# Altium footprint library LED_THT.PcbLib: 81 footprints (part 4 of 6)
Each footprint in its own frame and in the unit in brackets; x right, y up, seen from the top. Pads: shape width x height; smd on the part's side, far side on the other; paste and mask are expansions set on the pad; w line width, h text height; cw(c..) or ccw(c..) is an arc to the next point about the centre after c.
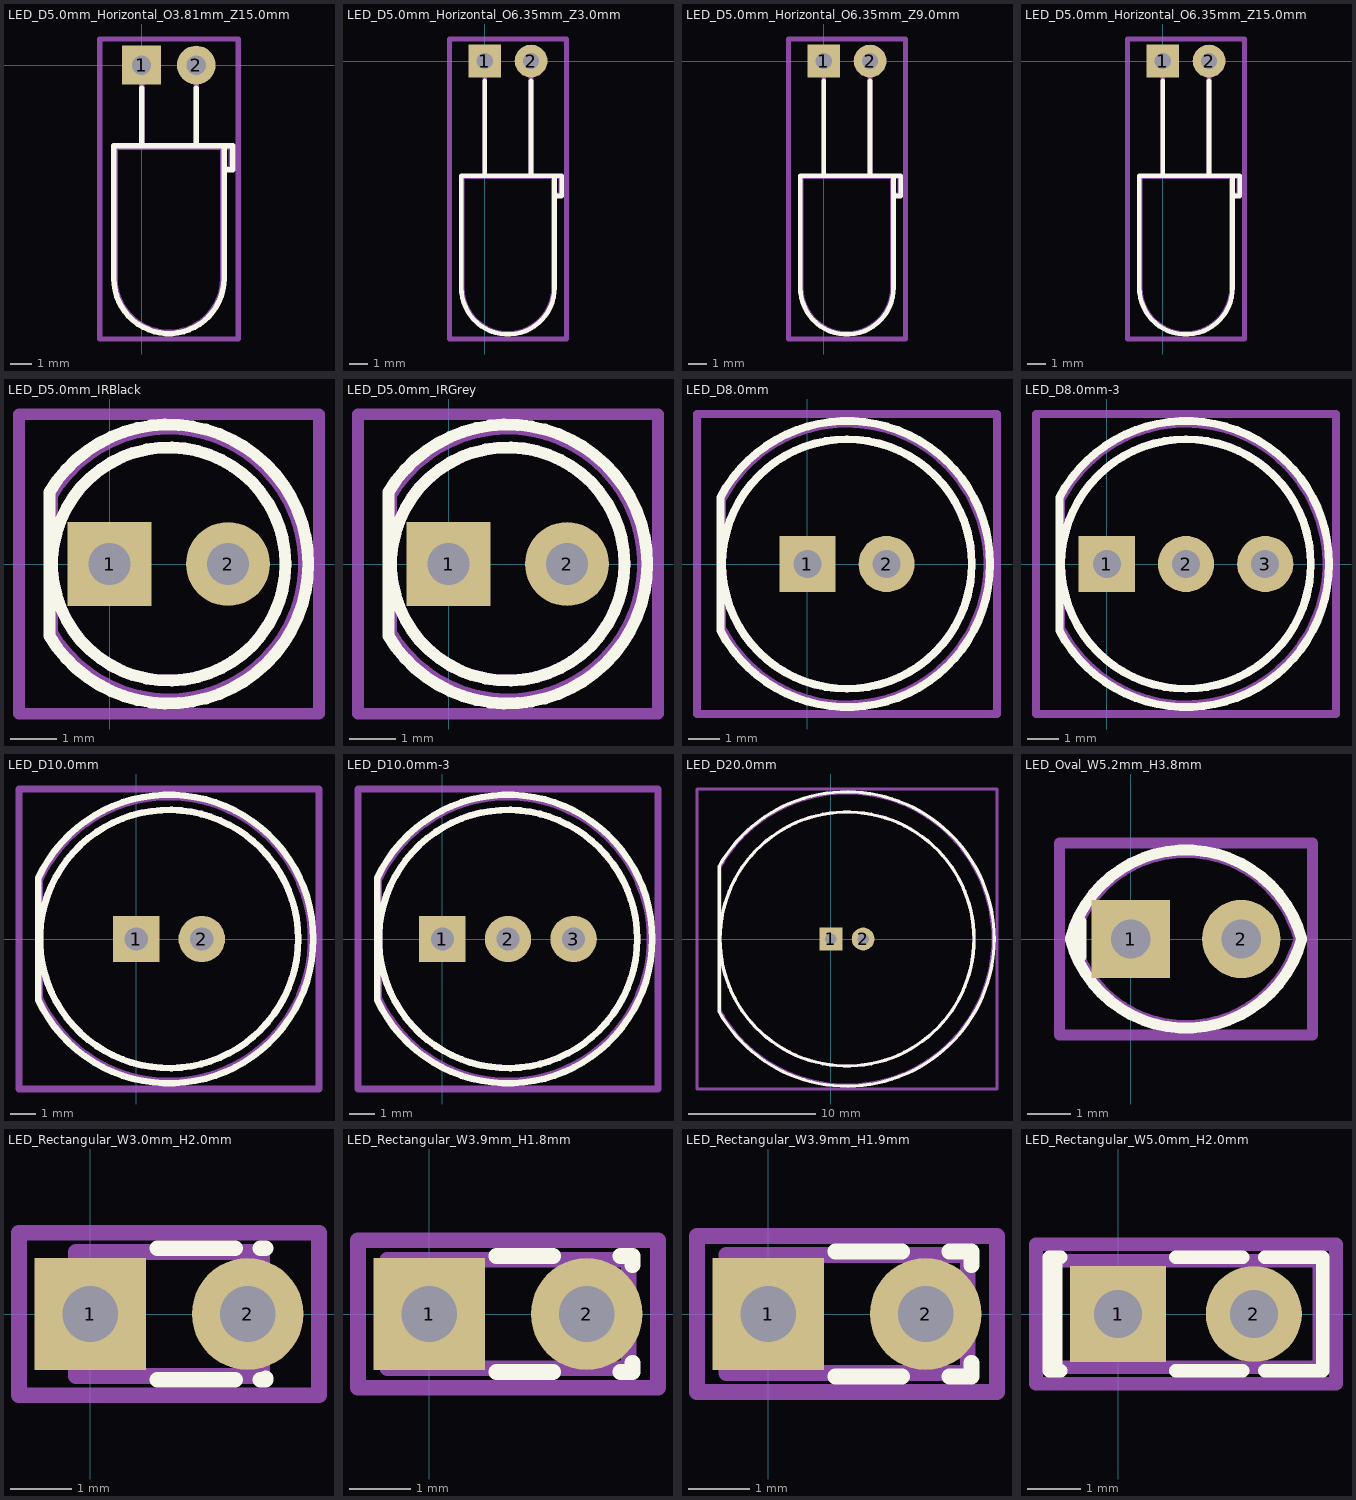
[diagram p3: the footprints below, top view; thin cyan lines are the x and y axes]

## LED_D5.0mm_Horizontal_O3.81mm_Z15.0mm [mm]
pads (2):
  rect 1.8x1.8 hole 0.9: 1(0,0)
  round 1.8 hole 0.9: 2(2.54,0)
F.SilkS:
  lines w0.254: 3.83,-3.75 3.83,-4.87 4.23,-4.87 4.23,-3.75 3.83,-3.75 ; 3.83,-3.75 3.83,-9.91 cw(c1.27,-9.91) -1.29,-9.91 -1.29,-3.75 3.83,-3.75 ; 0,-3.75 0,-1.08 0,-3.75 ; 2.54,-3.75 2.54,-1.08 2.54,-3.75
Top Assembly:
  lines w0.254: 3.77,-3.81 3.77,-4.81 4.17,-4.81 4.17,-3.81 3.77,-3.81 ; 3.77,-3.81 3.77,-9.91 cw(c1.27,-9.91) -1.23,-9.91 -1.23,-3.81 3.77,-3.81 ; 0,-3.81 0,0 0,-3.81 ; 2.54,-3.81 2.54,0 2.54,-3.81
  text "'.Designator'" at -1.967,-7.982 h0.8
Top Courtyard:
  lines w0.254: -1.94,-12.72 4.49,-12.72 4.49,1.21 -1.94,1.21 -1.94,-12.72
Top Designator:
  text ".Designator" at -6.353,-6.263 h1.52

## LED_D5.0mm_Horizontal_O6.35mm_Z3.0mm [mm]
pads (2):
  rect 1.8x1.8 hole 0.9: 1(0,0)
  round 1.8 hole 0.9: 2(2.54,0)
F.SilkS:
  lines w0.254: 3.83,-6.29 3.83,-7.41 4.23,-7.41 4.23,-6.29 3.83,-6.29 ; 3.83,-6.29 3.83,-12.45 cw(c1.27,-12.45) -1.29,-12.45 -1.29,-6.29 3.83,-6.29 ; 0,-6.29 0,-1.08 0,-6.29 ; 2.54,-6.29 2.54,-1.08 2.54,-6.29
Top Assembly:
  lines w0.254: 3.77,-6.35 3.77,-7.35 4.17,-7.35 4.17,-6.35 3.77,-6.35 ; 3.77,-6.35 3.77,-12.45 cw(c1.27,-12.45) -1.23,-12.45 -1.23,-6.35 3.77,-6.35 ; 0,-6.35 0,0 0,-6.35 ; 2.54,-6.35 2.54,0 2.54,-6.35
  text "'.Designator'" at -1.967,-10.522 h0.8
Top Courtyard:
  lines w0.254: -1.94,-15.26 4.49,-15.26 4.49,1.21 -1.94,1.21 -1.94,-15.26
Top Designator:
  text ".Designator" at -6.353,-7.533 h1.52

## LED_D5.0mm_Horizontal_O6.35mm_Z9.0mm [mm]
pads (2):
  rect 1.8x1.8 hole 0.9: 1(0,0)
  round 1.8 hole 0.9: 2(2.54,0)
F.SilkS:
  lines w0.254: 3.83,-6.29 3.83,-7.41 4.23,-7.41 4.23,-6.29 3.83,-6.29 ; 3.83,-6.29 3.83,-12.45 cw(c1.27,-12.45) -1.29,-12.45 -1.29,-6.29 3.83,-6.29 ; 0,-6.29 0,-1.08 0,-6.29 ; 2.54,-6.29 2.54,-1.08 2.54,-6.29
Top Assembly:
  lines w0.254: 3.77,-6.35 3.77,-7.35 4.17,-7.35 4.17,-6.35 3.77,-6.35 ; 3.77,-6.35 3.77,-12.45 cw(c1.27,-12.45) -1.23,-12.45 -1.23,-6.35 3.77,-6.35 ; 0,-6.35 0,0 0,-6.35 ; 2.54,-6.35 2.54,0 2.54,-6.35
  text "'.Designator'" at -1.967,-10.522 h0.8
Top Courtyard:
  lines w0.254: -1.94,-15.26 4.49,-15.26 4.49,1.21 -1.94,1.21 -1.94,-15.26
Top Designator:
  text ".Designator" at -6.353,-7.533 h1.52

## LED_D5.0mm_Horizontal_O6.35mm_Z15.0mm [mm]
pads (2):
  rect 1.8x1.8 hole 0.9: 1(0,0)
  round 1.8 hole 0.9: 2(2.54,0)
F.SilkS:
  lines w0.254: 3.83,-6.29 3.83,-7.41 4.23,-7.41 4.23,-6.29 3.83,-6.29 ; 3.83,-6.29 3.83,-12.45 cw(c1.27,-12.45) -1.29,-12.45 -1.29,-6.29 3.83,-6.29 ; 0,-6.29 0,-1.08 0,-6.29 ; 2.54,-6.29 2.54,-1.08 2.54,-6.29
Top Assembly:
  lines w0.254: 3.77,-6.35 3.77,-7.35 4.17,-7.35 4.17,-6.35 3.77,-6.35 ; 3.77,-6.35 3.77,-12.45 cw(c1.27,-12.45) -1.23,-12.45 -1.23,-6.35 3.77,-6.35 ; 0,-6.35 0,0 0,-6.35 ; 2.54,-6.35 2.54,0 2.54,-6.35
  text "'.Designator'" at -1.967,-10.522 h0.8
Top Courtyard:
  lines w0.254: -1.94,-15.26 4.49,-15.26 4.49,1.21 -1.94,1.21 -1.94,-15.26
Top Designator:
  text ".Designator" at -6.353,-7.533 h1.52

## LED_D5.0mm_IRBlack [mm]
pads (2):
  rect 1.8x1.8 hole 0.9: 1(0,0)
  round 1.8 hole 0.9: 2(2.54,0)
F.SilkS:
  circle w0.254: c1.27,0 r2.5
  lines w0.254: -1.29,-1.545 -1.29,1.545 ; -1.29,-1.545 ccw(c1.27,0) 4.26,0 ccw(c1.27,0) -1.29,1.545
Top Assembly:
  circle w0.254: c1.27,0 r2.5
  lines w0.254: -1.23,-1.47 ccw(c1.27,0) -1.23,1.47 -1.23,-1.47
  text "'.Designator'" at -1.967,-0.672 h0.8
Top Courtyard:
  lines w0.254: -1.94,-3.21 4.49,-3.21 4.49,3.21 -1.94,3.21 -1.94,-3.21
Top Designator:
  text ".Designator" at -6.353,-0.508 h1.52

## LED_D5.0mm_IRGrey [mm]
pads (2):
  rect 1.8x1.8 hole 0.9: 1(0,0)
  round 1.8 hole 0.9: 2(2.54,0)
F.SilkS:
  circle w0.254: c1.27,0 r2.5
  lines w0.254: -1.29,-1.545 -1.29,1.545 ; -1.29,-1.545 ccw(c1.27,0) 4.26,0 ccw(c1.27,0) -1.29,1.545
Top Assembly:
  circle w0.254: c1.27,0 r2.5
  lines w0.254: -1.23,-1.47 ccw(c1.27,0) -1.23,1.47 -1.23,-1.47
  text "'.Designator'" at -1.967,-0.672 h0.8
Top Courtyard:
  lines w0.254: -1.94,-3.21 4.49,-3.21 4.49,3.21 -1.94,3.21 -1.94,-3.21
Top Designator:
  text ".Designator" at -6.353,-0.508 h1.52

## LED_D8.0mm [mm]
pads (2):
  rect 1.8x1.8 hole 0.9: 1(0,0)
  round 1.8 hole 0.9: 2(2.54,0)
F.SilkS:
  circle w0.254: c1.27,0 r4
  lines w0.254: -2.79,-2.141 ccw(c1.27,0) 5.86,0 ccw(c1.27,0) -2.79,2.141 -2.79,-2.141
Top Assembly:
  circle w0.254: c1.27,0 r4
  lines w0.254: -2.73,-2.062 ccw(c1.27,0) -2.73,2.062 -2.73,-2.062
  text "'.Designator'" at -1.967,-0.672 h0.8
Top Courtyard:
  lines w0.254: -3.54,-4.81 6.08,-4.81 6.08,4.81 -3.54,4.81 -3.54,-4.81
Top Designator:
  text ".Designator" at -6.348,-0.508 h1.52

## LED_D8.0mm-3 [mm]
pads (3):
  rect 1.8x1.8 hole 0.9: 1(0,0)
  round 1.8 hole 0.9: 2(2.54,0) 3(5.08,0)
F.SilkS:
  circle w0.254: c2.54,0 r4
  lines w0.254: -1.52,-2.141 ccw(c2.54,0) 7.13,0 ccw(c2.54,0) -1.52,2.141 -1.52,-2.141
Top Assembly:
  circle w0.254: c2.54,0 r4
  lines w0.254: -1.46,-2.062 ccw(c2.54,0) -1.46,2.062 -1.46,-2.062
  text "'.Designator'" at -0.697,-0.672 h0.8
Top Courtyard:
  lines w0.254: -2.27,-4.81 7.35,-4.81 7.35,4.81 -2.27,4.81 -2.27,-4.81
Top Designator:
  text ".Designator" at -5.078,-0.508 h1.52

## LED_D10.0mm [mm]
pads (2):
  rect 1.8x1.8 hole 0.9: 1(0,0)
  round 1.8 hole 0.9: 2(2.54,0)
F.SilkS:
  circle w0.254: c1.27,0 r5
  lines w0.254: -3.79,-2.376 ccw(c1.27,0) 6.86,0 ccw(c1.27,0) -3.79,2.376 -3.79,-2.376
Top Assembly:
  circle w0.254: c1.27,0 r5
  lines w0.254: -3.73,-2.291 ccw(c1.27,0) -3.73,2.291 -3.73,-2.291
  text "'.Designator'" at -1.967,-0.672 h0.8
Top Courtyard:
  lines w0.254: -4.54,-5.81 7.08,-5.81 7.08,5.81 -4.54,5.81 -4.54,-5.81
Top Designator:
  text ".Designator" at -6.348,-0.508 h1.52

## LED_D10.0mm-3 [mm]
pads (3):
  rect 1.8x1.8 hole 0.9: 1(0,0)
  round 1.8 hole 0.9: 2(2.54,0) 3(5.08,0)
F.SilkS:
  circle w0.254: c2.54,0 r5
  lines w0.254: -2.52,-2.376 ccw(c2.54,0) 8.13,0 ccw(c2.54,0) -2.52,2.376 -2.52,-2.376
Top Assembly:
  circle w0.254: c2.54,0 r5
  lines w0.254: -2.46,-2.291 ccw(c2.54,0) -2.46,2.291 -2.46,-2.291
  text "'.Designator'" at -0.697,-0.672 h0.8
Top Courtyard:
  lines w0.254: -3.27,-5.81 8.35,-5.81 8.35,5.81 -3.27,5.81 -3.27,-5.81
Top Designator:
  text ".Designator" at -5.078,-0.508 h1.52

## LED_D20.0mm [mm]
pads (2):
  rect 1.8x1.8 hole 0.9: 1(0,0)
  round 1.8 hole 0.9: 2(2.54,0)
F.SilkS:
  circle w0.254: c1.27,0 r10
  lines w0.254: -8.79,-5.755 ccw(c1.27,0) 12.86,0 ccw(c1.27,0) -8.79,5.755 ; -8.79,-5.755 -8.79,5.755
Top Assembly:
  circle w0.254: c1.27,0 r10
  lines w0.254: -8.73,-5.679 ccw(c1.27,0) -8.73,5.679 -8.73,-5.679
  text "'.Designator'" at -1.967,-0.672 h0.8
Top Courtyard:
  lines w0.254: -10.54,-11.81 13.08,-11.81 13.08,11.81 -10.54,11.81 -10.54,-11.81
Top Designator:
  text ".Designator" at -6.348,-0.508 h1.52

## LED_Oval_W5.2mm_H3.8mm [mm]
pads (2):
  rect 1.8x1.8 hole 0.9: 1(0,0)
  round 1.8 hole 0.9: 2(2.54,0)
F.SilkS:
  lines w0.254: -1.15,-0.404 -1.15,0.404 ; -1.39,0 ccw(c1.27,0.7) 3.93,0 ccw(c1.27,-0.7) -1.39,0
Top Assembly:
  lines w0.254: -1.33,0 ccw(c1.27,0.7) 3.87,0 ccw(c1.27,-0.7) -1.33,0
  text "'.Designator'" at -1.967,-0.672 h0.8
Top Courtyard:
  lines w0.254: -1.64,-2.21 4.18,-2.21 4.18,2.21 -1.64,2.21 -1.64,-2.21
Top Designator:
  text ".Designator" at -6.468,-0.508 h1.52

## LED_Rectangular_W3.0mm_H2.0mm [mm]
pads (2):
  rect 1.8x1.8 hole 0.9: 1(0,0)
  round 1.8 hole 0.9: 2(2.54,0)
F.SilkS:
  lines w0.254: 1.08,-1.06 2.333,-1.06 ; 1.08,1.06 2.333,1.06 ; 2.747,-1.06 2.83,-1.06 2.83,-1.04 ; 2.747,1.06 2.83,1.06
Top Assembly:
  lines w0.254: -0.23,-1 2.77,-1 2.77,1 -0.23,1 -0.23,-1
  text "'.Designator'" at -1.967,-0.672 h0.8
Top Courtyard:
  lines w0.254: -1.15,-1.31 3.69,-1.31 3.69,1.31 -1.15,1.31 -1.15,-1.31
Top Designator:
  text ".Designator" at -6.468,-0.508 h1.52

## LED_Rectangular_W3.9mm_H1.8mm [mm]
pads (2):
  rect 1.8x1.8 hole 0.9: 1(0,0)
  round 1.8 hole 0.9: 2(2.54,0)
F.SilkS:
  lines w0.254: 1.08,-0.935 1.999,-0.935 ; 1.08,0.935 1.999,0.935 ; 3.081,-0.935 3.28,-0.935 3.28,-0.787 ; 3.081,0.935 3.28,0.935 3.28,0.787
Top Assembly:
  lines w0.254: -0.68,-0.875 3.22,-0.875 3.22,0.875 -0.68,0.875 -0.68,-0.875
  text "'.Designator'" at -1.967,-0.672 h0.8
Top Courtyard:
  lines w0.254: -1.15,-1.19 3.69,-1.19 3.69,1.19 -1.15,1.19 -1.15,-1.19
Top Designator:
  text ".Designator" at -6.468,-0.508 h1.52

## LED_Rectangular_W3.9mm_H1.9mm [mm]
pads (2):
  rect 1.8x1.8 hole 0.9: 1(0,0)
  round 1.8 hole 0.9: 2(2.54,0)
F.SilkS:
  lines w0.254: 1.08,-1.01 2.158,-1.01 ; 1.08,1.01 2.158,1.01 ; 2.922,-1.01 3.28,-1.01 3.28,-0.787 ; 2.922,1.01 3.28,1.01 3.28,0.787
Top Assembly:
  lines w0.254: -0.68,-0.95 3.22,-0.95 3.22,0.95 -0.68,0.95 -0.68,-0.95
  text "'.Designator'" at -1.967,-0.672 h0.8
Top Courtyard:
  lines w0.254: -1.15,-1.26 3.69,-1.26 3.69,1.26 -1.15,1.26 -1.15,-1.26
Top Designator:
  text ".Designator" at -6.468,-0.508 h1.52

## LED_Rectangular_W5.0mm_H2.0mm [mm]
pads (2):
  rect 1.8x1.8 hole 0.9: 1(0,0)
  round 1.8 hole 0.9: 2(2.54,0)
F.SilkS:
  lines w0.254: -1.17,-1.06 -1.17,1.06 ; -1.08,-1.06 -1.29,-1.06 -1.29,1.06 -1.08,1.06 ; 1.08,-1.06 2.333,-1.06 ; 1.08,1.06 2.333,1.06 ; 2.747,-1.06 3.83,-1.06 3.83,1.06 2.747,1.06
Top Assembly:
  lines w0.254: -1.23,-1 3.77,-1 3.77,1 -1.23,1 -1.23,-1
  text "'.Designator'" at -1.967,-0.672 h0.8
Top Courtyard:
  lines w0.254: -1.54,-1.31 4.08,-1.31 4.08,1.31 -1.54,1.31 -1.54,-1.31
Top Designator:
  text ".Designator" at -6.468,-0.508 h1.52